# EAGLE library part PIC18F24K22 (library beacon_malzemeler)
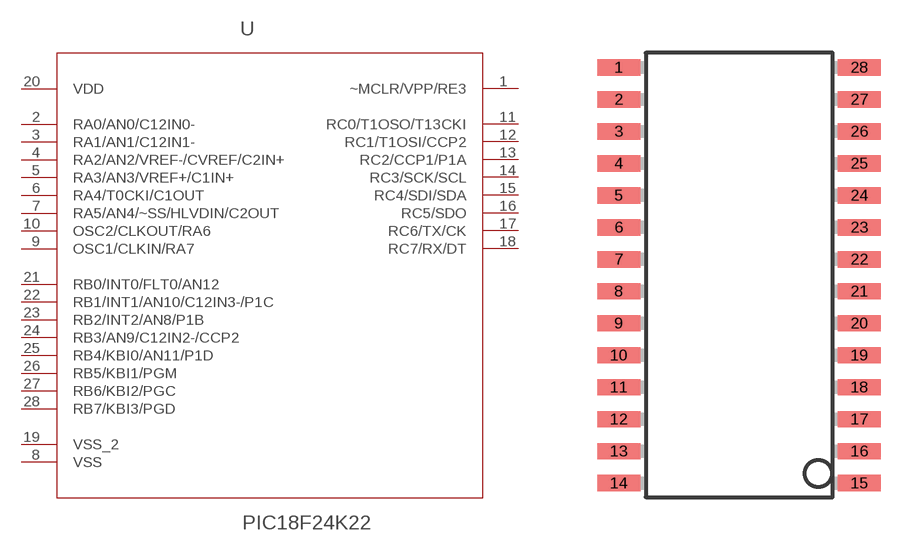
[diagram p1: symbol with the pads of SSPO28; footprint SSPO28]

Designator prefix -

## PIC18F24K22  [SSPO28]
1  ~MCLR/VPP/RE3
2  RA0/AN0/C12IN0-
3  RA1/AN1/C12IN1-
4  RA2/AN2/VREF-/CVREF/C2IN+
5  RA3/AN3/VREF+/C1IN+
6  RA4/T0CKI/C1OUT
7  RA5/AN4/~SS/HLVDIN/C2OUT
8  VSS  pwr
9  OSC1/CLKIN/RA7
10  OSC2/CLKOUT/RA6
11  RC0/T1OSO/T13CKI
12  RC1/T1OSI/CCP2
13  RC2/CCP1/P1A
14  RC3/SCK/SCL
15  RC4/SDI/SDA
16  RC5/SDO
17  RC6/TX/CK
18  RC7/RX/DT
19  VSS_2  pwr
20  VDD  pwr
21  RB0/INT0/FLT0/AN12
22  RB1/INT1/AN10/C12IN3-/P1C
23  RB2/INT2/AN8/P1B
24  RB3/AN9/C12IN2-/CCP2
25  RB4/KBI0/AN11/P1D
26  RB5/KBI1/PGM
27  RB6/KBI2/PGC
28  RB7/KBI3/PGD

## Footprint SSPO28 (pad centres in mm)
smd 1.7 x 0.65: 1 -4.78,7.62; 2 -4.78,6.35; 3 -4.78,5.08; 4 -4.78,3.81; 5 -4.78,2.54; 6 -4.78,1.27; 7 -4.78,0; 8 -4.78,-1.27; 9 -4.78,-2.54; 10 -4.78,-3.81; 11 -4.78,-5.08; 12 -4.78,-6.35; 13 -4.78,-7.62; 14 -4.78,-8.89; 15 4.78,-8.89; 16 4.78,-7.62; 17 4.78,-6.35; 18 4.78,-5.08; 19 4.78,-3.81; 20 4.78,-2.54; 21 4.78,-1.27; 22 4.78,0; 23 4.78,1.27; 24 4.78,2.54; 25 4.78,3.81; 26 4.78,5.08; 27 4.78,6.35; 28 4.78,7.62